# EAGLE library part USB-MICRO (library pendant)
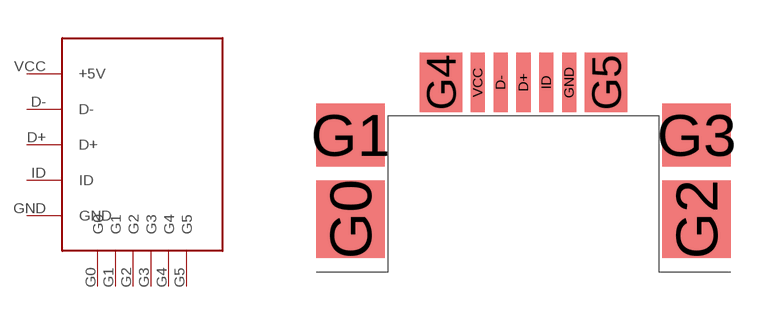
[diagram p0: symbol with the pads of UB-MC5BR3-M404; footprint UB-MC5BR3-M404]

Designator prefix -

## USB-MICRO  [UB-MC5BR3-M404]
D+  D+
D-  D-
G0  G0  pwr
G1  G1  pwr
G2  G2  pwr
G3  G3  pwr
G4  G4  pwr
G5  G5  pwr
GND  GND  pwr
ID  ID
VCC  +5V  pwr

## Footprint UB-MC5BR3-M404 (pad centres in mm)
smd 0.4 x 1.7: D+ 0,5.4; D- -0.65,5.4; GND 1.3,5.4; ID 0.65,5.4; VCC -1.3,5.4
smd 1.95 x 2.2: G0 -4.925,1.5; G2 4.925,1.5
smd 1.95 x 1.8: G1 -4.925,3.9; G3 4.925,3.9
smd 1.2 x 1.7: G4 -2.35,5.4; G5 2.35,5.4